# EAGLE library part LM3478 (library dc-dc)
Boost, Flyback, SEPIC Regulator Positive Output Step-Up, Step-Up/Step-Down - DC-DC Controller IC 8-SOIC
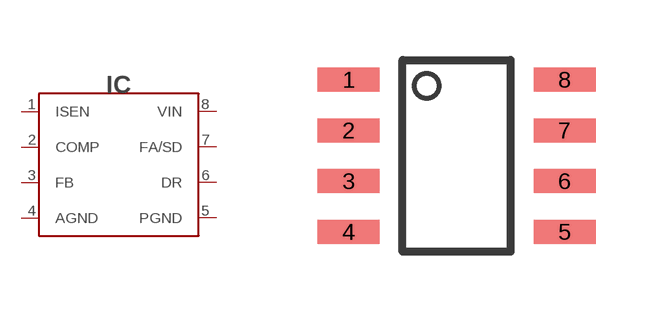
[diagram p14: symbol with the pads of SOIC8; footprint SOIC8]

Designator prefix IC

## LM3478-SO8 (DIGIKEY#: 296-38111-1-ND; LCSC#: C115907; MANF: Texas Instruments; MANF#: LM3478MAX/NOPB)  [SOIC8]
1  ISEN
2  COMP
3  FB
4  AGND
5  PGND
6  DR
7  FA/SD
8  VIN

## Footprint SOIC8 (pad centres in mm)
https://www.ti.com/lit/ds/snvsaq5a/snvsaq5a.pdf?ts=1602424164509
smd 1.55 x 0.6: 1 -2.7,1.905; 2 -2.7,0.635; 3 -2.7,-0.635; 4 -2.7,-1.905; 5 2.7,-1.905; 6 2.7,-0.635; 7 2.7,0.635; 8 2.7,1.905